# EAGLE library part M55-7001642R (library M55-7001642R)
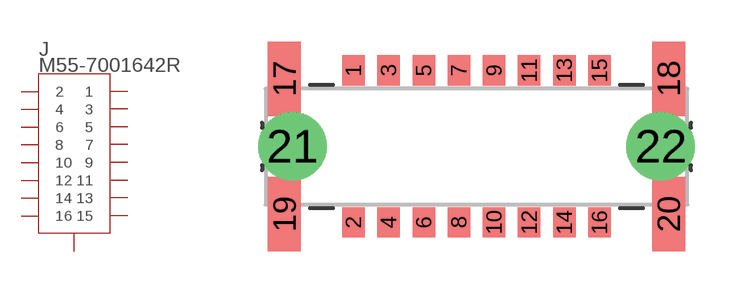
[diagram p0: symbol with the pads of CONN16_01642R_HRW; footprint CONN16_01642R_HRW]

Designator prefix J

## M55-7001642R (COPYRIGHT: Copyright (C) 2022 Ultra Librarian. All rights reserved.; DIGI-KEY_PART_NUMBER_1: 952-3868-2-ND; DIGI-KEY_PART_NUMBER_2: 952-3868-1-ND; DIGI-KEY_PART_NUMBER_3: 952-3868-6-ND; MANUFACTURER_PART_NUMBER: M55-7001642R; MFR_NAME: Harwin)  [CONN16_01642R_HRW]
1  1  pas
2  2  pas
3  3  pas
4  4  pas
5  5  pas
6  6  pas
7  7  pas
8  8  pas
9  9  pas
10  10  pas
11  11  pas
12  12  pas
13  13  pas
14  14  pas
15  15  pas
16  16  pas
17  GND  pas
18  GND  pas
19  GND  pas
20  GND  pas

## Footprint CONN16_01642R_HRW (pad centres in mm)
smd 0.813 x 1.092: 1 0,0; 2 0,-5.5; 3 1.27,0; 4 1.27,-5.5; 5 2.54,0; 6 2.54,-5.5; 7 3.81,0; 8 3.81,-5.5; 9 5.08,0; 10 5.08,-5.5; 11 6.35,0; 12 6.35,-5.5; 13 7.62,0; 14 7.62,-5.5; 15 8.89,0; 16 8.89,-5.5
smd 1.194 x 2.692: 17 -2.495,-0.3; 18 11.385,-0.3; 19 -2.495,-5.2; 20 11.385,-5.2
drill 1.651 pad 1.905: 21 -2.21,-2.743; 22 11.1,-2.743